# EAGLE library part SW,MULTFUNT,SCROLL (library 0_MyTempLIB)
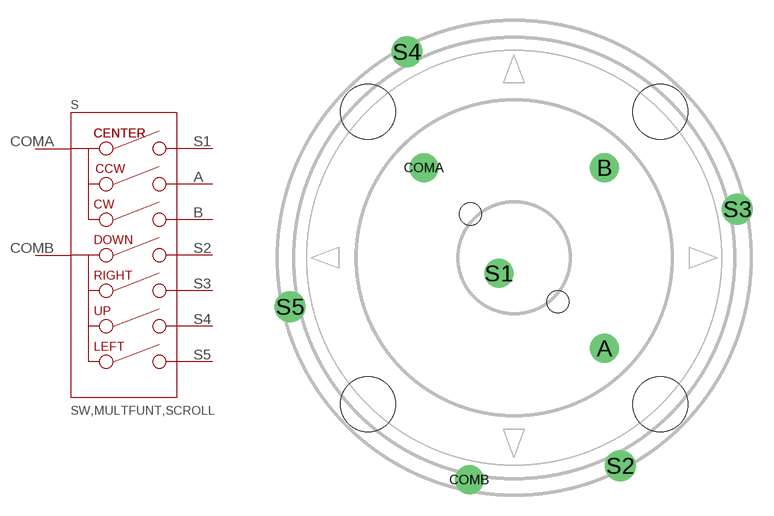
[diagram p14: symbol with the pads of SW,MULTFUNT,SCROLL; footprint SW,MULTFUNT,SCROLL]

Designator prefix S

## SW,MULTFUNT,SCROLL  [SW,MULTFUNT,SCROLL]
A  A  pas
B  B  pas
COMA  COMA  pas
COMB  COMB  pas
S1  S1  pas
S2  S2  pas
S3  S3  pas
S4  S4  pas
S5  S5  pas

## Footprint SW,MULTFUNT,SCROLL (pad centres in mm)
drill 1.4: A 6.548,-6.548; B 6.548,6.548; COMA -6.548,6.548; COMB -3.253,-16.08; S1 -1.11,-1.11
drill 1.5: S2 7.707,-15.061; S3 16.196,3.54; S4 -7.788,14.957; S5 -16.263,-3.536
hole 4 at 10.607,10.607
hole 4 at 10.607,-10.607
hole 4 at -10.607,10.607
hole 4 at -10.607,-10.607
hole 1.6 at -3.182,3.182
hole 1.6 at 3.182,-3.182